# EAGLE library part ESP-32S (library inker_super_board_parts)
WiFi-BT-BLE MCU module Description The ESP32-S is an Original ESP32 series module from Ai-Thinker. This wireless module based on ESP32, supports WiFi and Bluetooth 4.2, with built-in 32Mbit Flash, in the SMD38 package. There're also onboard PCB antenna and metal shield. In short, it's a small form factor and fairly high cost-effective wireless module. With the pre-flashed AT firmware, you can control the module through UART AT commands easily. The module integrates MCU inside, supports other developments like Lua/Micropython/Arduino to achieve flexible and fast prototyping, make it easy to integrate the module into IoT applications. Ai-Thinker's ESP32-S WiFi+BT SoC Module has a highly competitive package size and ultra-low power technology. Esp32-S can be widely used in various networking, for home automation, industrial wireless control, baby monitors, wearable electronics products, wireless position sensing devices, wireless positioning system signals, and other networking applications. Esp32-S is packaged in SMD, through the standard SMT equipment to achieve rapid production of products, to provide customers with high reliability of the connection, especially for Automation, large-scale, low-cost modern production methods, It’s suitable for all kinds of Internet of things hardware terminal occasions. Applications: The ESP32-S suit for many IoT applications such as: Smart home Intelligent building Industrial automation Wearable devices IP camera Intelligent agriculture Source: Datasheet <https://www.es.co.th/Schemetic/PDF/ESP32.PDF>
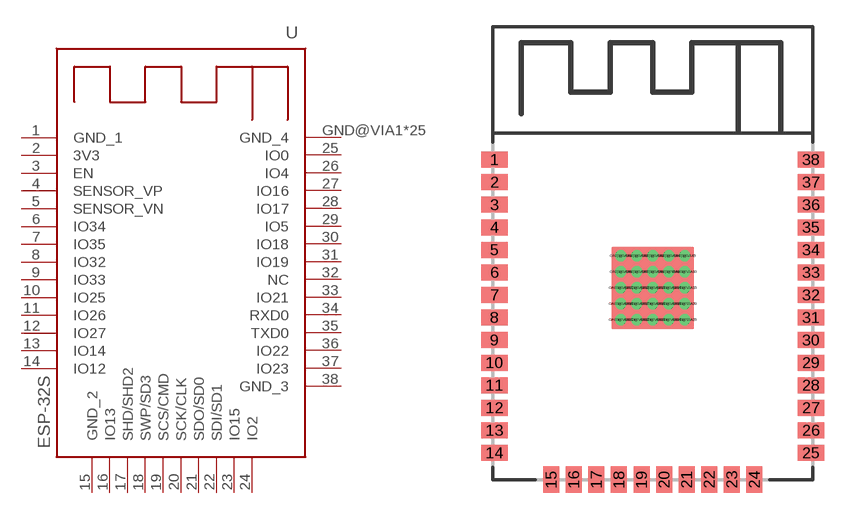
[diagram p5: symbol with the pads of ESP-32S; footprint ESP-32S]

Designator prefix U

## ESP-32S (DESCRIPTION: WiFi-BT-BLE MCU module; MANUFACTURER_NAME: Ai-Thinker; MANUFACTURER_PART_NUMBER: ESP-32s)  [ESP-32S]
1  GND_1
2  3V3
3  EN
4  SENSOR_VP
5  SENSOR_VN
6  IO34
7  IO35
8  IO32
9  IO33
10  IO25
11  IO26
12  IO27
13  IO14
14  IO12
15  GND_2
16  IO13
17  SHD/SHD2
18  SWP/SD3
19  SCS/CMD
20  SCK/CLK
21  SDO/SD0
22  SDI/SD1
23  IO15
24  IO2
25  IO0
26  IO4
27  IO16
28  IO17
29  IO5
30  IO18
31  IO19
32  NC  nc
33  IO21
34  RXD0
35  TXD0
36  IO22
37  IO23
38  GND_3
GND@VIA1  GND_4
GND@VIA2  GND_4
GND@VIA3  GND_4
GND@VIA4  GND_4
GND@VIA5  GND_4
GND@VIA6  GND_4
GND@VIA7  GND_4
GND@VIA8  GND_4
GND@VIA9  GND_4
GND@VIA10  GND_4
GND@VIA11  GND_4
GND@VIA12  GND_4
GND@VIA13  GND_4
GND@VIA14  GND_4
GND@VIA15  GND_4
GND@VIA16  GND_4
GND@VIA17  GND_4
GND@VIA18  GND_4
GND@VIA19  GND_4
GND@VIA20  GND_4
GND@VIA21  GND_4
GND@VIA22  GND_4
GND@VIA23  GND_4
GND@VIA24  GND_4
GND@VIA25  GND_4

## Footprint ESP-32S (pad centres in mm)
ESP-32s
smd 1.5 x 0.9: 1 -8.9,18.01; 2 -8.9,16.74; 3 -8.9,15.47; 4 -8.9,14.2; 5 -8.9,12.93; 6 -8.9,11.66; 7 -8.9,10.39; 8 -8.9,9.12; 9 -8.9,7.85; 10 -8.9,6.58; 11 -8.9,5.31; 12 -8.9,4.04; 13 -8.9,2.77; 14 -8.9,1.5; 25 8.9,1.5; 26 8.9,2.77; 27 8.9,4.04; 28 8.9,5.31; 29 8.9,6.58; 30 8.9,7.85; 31 8.9,9.12; 32 8.9,10.39; 33 8.9,11.66; 34 8.9,12.93; 35 8.9,14.2; 36 8.9,15.47; 37 8.9,16.74; 38 8.9,18.01
smd 0.9 x 1.5: 15 -5.71,0; 16 -4.44,0; 17 -3.17,0; 18 -1.9,0; 19 -0.63,0; 20 0.64,0; 21 1.91,0; 22 3.18,0; 23 4.45,0; 24 5.72,0
drill 0.127 pad 0.254: GND@VIA1 -1.8,12.6; GND@VIA2 -0.9,12.6; GND@VIA3 0,12.6; GND@VIA4 0.9,12.6; GND@VIA5 1.8,12.6; GND@VIA6 -1.8,11.7; GND@VIA7 -0.9,11.7; GND@VIA8 0,11.7; GND@VIA9 0.9,11.7; GND@VIA10 1.8,11.7; GND@VIA11 -1.8,10.8; GND@VIA12 -0.9,10.8; GND@VIA13 0,10.8; GND@VIA14 0.9,10.8; GND@VIA15 1.8,10.8; GND@VIA16 -1.8,9.9; GND@VIA17 -0.9,9.9; GND@VIA18 0,9.9; GND@VIA19 0.9,9.9; GND@VIA20 1.8,9.9; GND@VIA21 -1.8,9; GND@VIA22 -0.9,9; GND@VIA23 0,9; GND@VIA24 0.9,9; GND@VIA25 1.8,9